# EAGLE library part ST25DV04K-IER6S3 (library ST25DV04K-IER6S3)
STMICROELECTRONICS - ST25DV04K-IER6S3 - RFID/NFC IC, 13.553 MHz to 13.567 MHz, Read, Write, 4Kbit, I2C, 1.8 V to 5.5 V, SOIC-8 Source: Datasheet <https://ms.componentsearchengine.com/Datasheets/2/ST25DV04K-IER6S3.pdf>
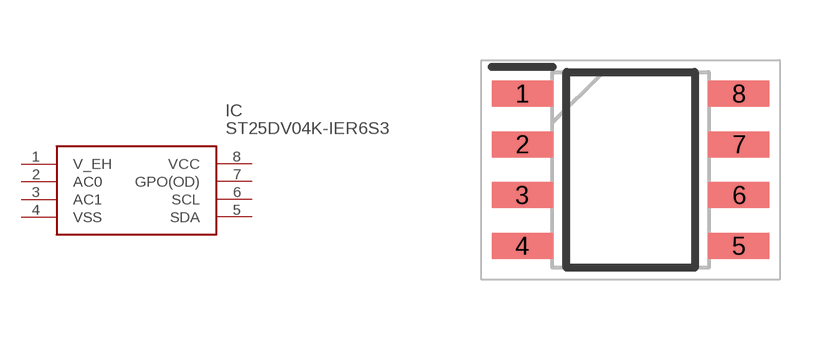
[diagram p0: symbol with the pads of SOIC127P600X175-8N; footprint SOIC127P600X175-8N]

Designator prefix IC

## ST25DV04K-IER6S3 (Description: STMICROELECTRONICS - ST25DV04K-IER6S3 - RFID/NFC IC, 13.553 MHz to 13.567 MHz, Read, Write, 4Kbit, I2C, 1.8 V to 5.5 V, SOIC-8; Height: 1.75mm; Manufacturer_Name: STMicroelectronics; Manufacturer_Part_Number: ST25DV04K-IER6S3; Mouser_Part_Number: 511-ST25DV04K-IER6S3; Mouser_Price-Stock: https://www.mouser.co.uk/ProductDetail/STMicroelectronics/ST25DV04K-IER6S3?qs=xjeEZJU9OeNdtP1j9447OQ%3D%3D)  [SOIC127P600X175-8N]
1  V_EH
2  AC0
3  AC1
4  VSS
5  SDA
6  SCL
7  GPO(OD)
8  VCC

## Footprint SOIC127P600X175-8N (pad centres in mm)
SO8N – 8-lead plastic small outline, 150 mils body width
smd 1.525 x 0.65: 1 -2.712,1.905; 2 -2.712,0.635; 3 -2.712,-0.635; 4 -2.712,-1.905; 5 2.712,-1.905; 6 2.712,-0.635; 7 2.712,0.635; 8 2.712,1.905